# EAGLE library part HF15 (library crasbe)
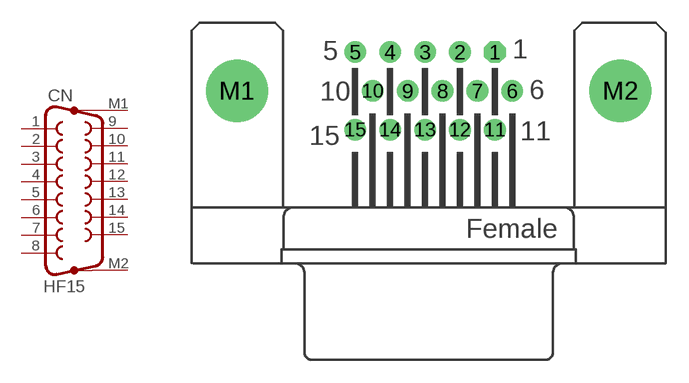
[diagram p39: symbol with the pads of HD15F; footprint HD15F]

Designator prefix CN

## HF15  [HD15F]
1  1  pas
2  2  pas
3  3  pas
4  4  pas
5  5  pas
6  6  pas
7  7  pas
8  8  pas
9  9  pas
10  10  pas
11  11  pas
12  12  pas
13  13  pas
14  14  pas
15  15  pas
M1  G1  pas
M2  G2  pas

## Footprint HD15F (pad centres in mm)
drill 0.9 octagon: 1 4.329,6.35
drill 0.9: 2 2.043,6.35; 3 -0.243,6.35; 4 -2.529,6.35; 5 -4.815,6.35; 6 5.472,3.81; 7 3.186,3.81; 8 0.9,3.81; 9 -1.386,3.81; 10 -3.672,3.81; 11 4.329,1.27; 12 2.043,1.27; 13 -0.243,1.27; 14 -2.529,1.27; 15 -4.815,1.27
drill 3.048: M1 -12.541,3.81; M2 12.541,3.81